# Altium footprint library bq29700 222.PcbLib: 2 footprints
Each footprint in its own frame and in the unit in brackets; x right, y up, seen from the top. Pads: shape width x height; smd on the part's side, far side on the other; paste and mask are expansions set on the pad; w line width, h text height; cw(c..) or ccw(c..) is an arc to the next point about the centre after c.
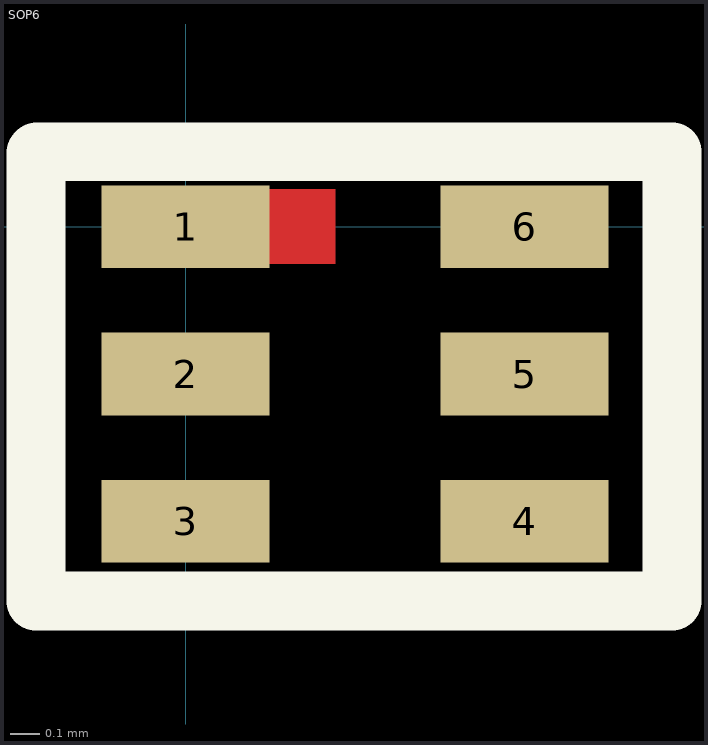
[diagram p0: the footprints below, top view; thin cyan lines are the x and y axes]

## PCBComponent_1 [mm]

## SOP6 [mm]
pads (6):
  rect 0.57x0.28 smd: 1(0,0) 2(0,-0.5) 3(0,-1) 4(1.15,-1) 5(1.15,-0.5) 6(1.15,0)
Top Layer:
  rectangle: -0.127,-0.127 0.508,0.127
Top Overlay:
  lines w0.2: -0.508,0.25 -0.508,-1.27 1.651,-1.27 1.651,0.25 ; -0.504,0.254 1.651,0.254